# Altium schematic symbol library IRS25752LTRPBF.Schlib: 1 symbol
Pins are listed as number, name and electrical type; pins without a type are passive.

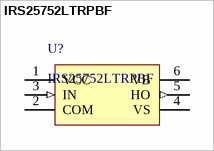
[diagram p0: symbol IRS25752LTRPBF]

## IRS25752LTRPBF
designator U?
High-Side Gate Driver IC Non-Inverting SOT-23-6
pins: 1 VCC (power), 2 COM (power), 3 IN (in), 4 VS (power), 5 HO (out), 6 VB (power)